# EAGLE library part DG412 (library vishay)
CMOS SWITCH
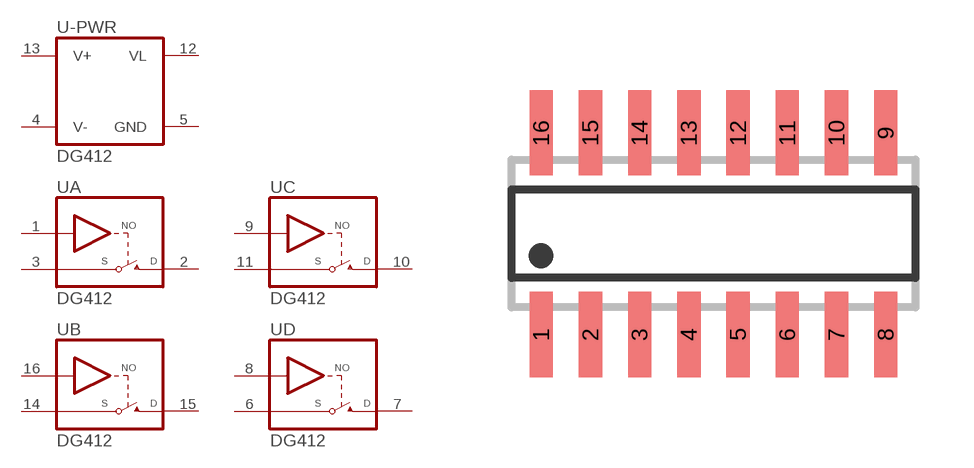
[diagram p0: symbol with the pads of SO16; footprint SO16]

Designator prefix U; gates A=DG41XL-NO-GATE B=DG41XL-NO-GATE C=DG41XL-NO-GATE D=DG41XL-NO-GATE -PWR=DG41XL-PWR

## DG412D  [SO16]
1  A:IN  in
2  A:D
3  A:S
4  -PWR:V-  pwr
5  -PWR:GND  pwr
6  D:S
7  D:D
8  D:IN  in
9  C:IN  in
10  C:D
11  C:S
12  -PWR:VL  pwr
13  -PWR:V+  pwr
14  B:S
15  B:D
16  B:IN  in

## Footprint SO16 (pad centres in mm)
SMALL OUTLINE INTEGRATED CIRCUIT body 3.9 mm/JEDEC MS-012AC
smd 0.6 x 2.2: 1 -4.445,-2.6; 2 -3.175,-2.6; 3 -1.905,-2.6; 4 -0.635,-2.6; 5 0.635,-2.6; 6 1.905,-2.6; 7 3.175,-2.6; 8 4.445,-2.6; 9 4.445,2.6; 10 3.175,2.6; 11 1.905,2.6; 12 0.635,2.6; 13 -0.635,2.6; 14 -1.905,2.6; 15 -3.175,2.6; 16 -4.445,2.6